# Altium integrated library TI Data Converters Analog to Digital Converter.IntLib: 2197 symbols (part 160 of 168)
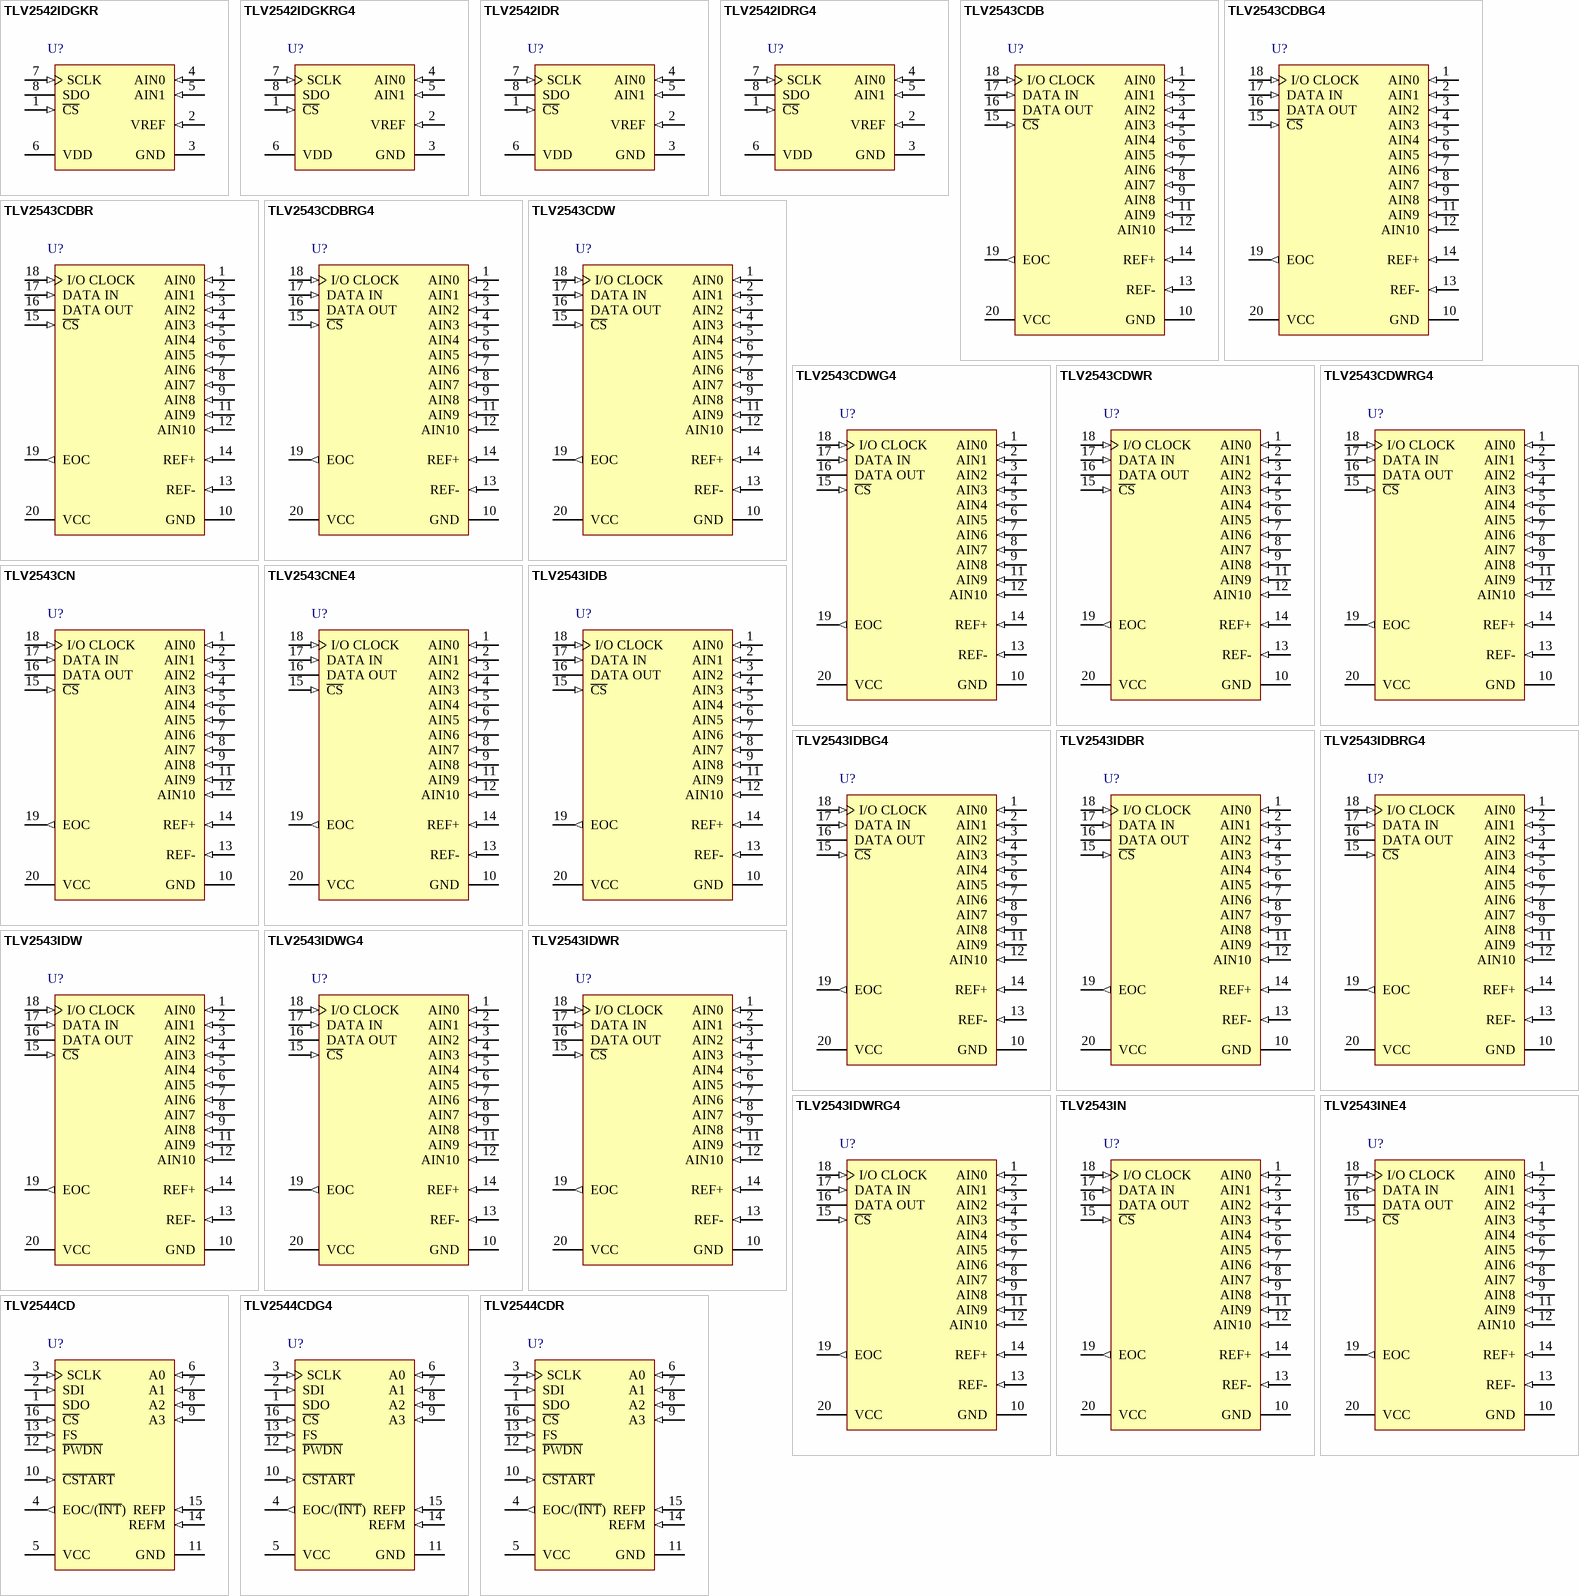
[diagram p285: symbols TLV2542IDGKR to TLV2544CDR]

## TLV2543CDBR
designator U?
12-Bit 66 kSPS ADC Serial Out, Programmable Power Down, MSB / LSB First, Built-in Self-Test Mode, 11 Channel, 0 to 70 degC, 20-pin SOP (DB20), Green (RoHS & no Sb/Br); Manufacturer: Texas Instruments; PartNumber: TLV2543CDBR; # Input Channels: 11; Analog Voltage AV/DD(Max)(V): 3.6; Analog Voltage AV/DD(Min)(V): 3; Architecture: SAR; INL(Max)(+/-LSB): 1; Interface: Serial SPI; Resolution(Bits): 12; Sample Rate (max)(SPS): 66k; SubFamily: Precision ADC (<=10MSPS); DatasheetVersion: SLAS096C; PackageVersion: 4040065/E, 12/2001; PackageReference: DB20; PackageDescription: 20-Pin Plastic Small Outline, Body 5.3 x 7.2 mm, Pitch 0.65 mm; Supplier 1: Digi-Key; Supplier Part Number 1: 296-24933-2-ND; Supplier 2: Digi-Key; Supplier Part Number 2: 296-24933-1-ND; Supplier 3: Digi-Key; Supplier Part Number 3: 296-24933-6-ND; Supplier 4: Farnell; Supplier Part Number 4: 1762980; Supplier 5: Newark; Supplier Part Number 5: 34R6530; Supplier 6: Newark; Supplier Part Number 6: 25R1240; Supplier 7: Mouser; Supplier Part Number 7: 595-ADS1114IRUGT; Digital Supply(Max)(V): 3.6; Digital Supply(Min)(V): 3; Eco-Plan: Green (RoHS & no Sb/Br); Mounting Technology: Surface Mount; Code_JEDEC: MO-150; ComponentLink1Description: Manufacturer URL; ComponentLink1URL: http://www.ti.com/; ComponentLink2Description: Datasheet; ComponentLink2URL: http://www.ti.com/general/docs/lit/getliterature.tsp?genericPartNumber=TLV2543&fileType=pdf; ComponentLink3Description: Package Specification; ComponentLink3URL: http://www.ti.com/lit/ml/msso002e/msso002e.pdf
footprint TI-DB20_N (SOP, 20-Leads, Body 7.2x5.3mm, Pitch 0.65mm, IPC Medium Density)
footprint TI-DB20_L (SOP, 20-Leads, Body 7.2x5.3mm, Pitch 0.65mm, IPC High Density)
footprint TI-DB20_M (SOP, 20-Leads, Body 7.2x5.3mm, Pitch 0.65mm, IPC Low Density)
pins: 1 AIN0 (in) "Analog input. These 11 analog-signal inputs are internally multiplexed.", 2 AIN1 (in) "Analog input. These 11 analog-signal inputs are internally multiplexed.", 3 AIN2 (in) "Analog input. These 11 analog-signal inputs are internally multiplexed.", 4 AIN3 (in) "Analog input. These 11 analog-signal inputs are internally multiplexed.", 5 AIN4 (in) "Analog input. These 11 analog-signal inputs are internally multiplexed.", 6 AIN5 (in) "Analog input. These 11 analog-signal inputs are internally multiplexed.", 7 AIN6 (in) "Analog input. These 11 analog-signal inputs are internally multiplexed.", 8 AIN7 (in) "Analog input. These 11 analog-signal inputs are internally multiplexed.", 9 AIN8 (in) "Analog input. These 11 analog-signal inputs are internally multiplexed.", 10 GND (power) "Ground. GND is the ground return terminal for the internal circuitry. Unless otherwise noted, all voltage measurements are with respect to GND.", 11 AIN9 (in) "Analog input. These 11 analog-signal inputs are internally multiplexed.", 12 AIN10 (in) "Analog input. These 11 analog-signal inputs are internally multiplexed.", 13 REF- (in) "Negative reference voltage. The lower reference voltage value (nominally ground) is applied to REF-. This pin is connected to analog ground (GND of the ADC) when internal reference is used.", 14 REF+ (in) "Positive reference voltage The upper reference voltage value (nominally VCC) is applied to REF+. The maximum analog input voltage range is determined by the difference between the voltage applied to terminals REF+ and REF-.", 15 ~{CS} (in) "Chip select. A high-to-low transition on C\S\ resets the internal counters and controls and enables DATA OUT, DATA IN, and I/O CLOCK. A low-to-high transition disables DATA IN and I/O CLOCK within a setup time.", 16 DATA OUT (hiz) "The 3-state serial output for the A/D conversion result. DATA OUT is in the high-impedance state when C\S\ is high and active when C\S\ is low. With a valid C\S\, DATA OUT is removed from the high-impedance state and is (See Datasheet)", 17 DATA IN (in) "Serial data input. The 4-bit serial data can be used as address selects the desired analog input channel or test voltage to be converted next, or a command to activate other other features. The input data is presented with (See Datasheet)", 18 I/O CLOCK (in) "Input /output clock. I/O CLOCK receives the serial input and performs the following four functions:", 19 EOC (out) "Status output, used to indicate the end of conversion (EOC) to the host processor. EOC goes from a high to a low logic level after the falling edge of the last I/O CLOCK and remains low until the conversion is complete and (See Datasheet)", 20 VCC (power) "Positive supply voltage"

## TLV2543CDBRG4
designator U?
12-Bit 66 kSPS ADC Serial Out, Programmable Power Down, MSB / LSB First, Built-in Self-Test Mode, 11 Channel, 0 to 70 degC, 20-pin SOP (DB20), Green (RoHS & no Sb/Br); Manufacturer: Texas Instruments; PartNumber: TLV2543CDBRG4; # Input Channels: 11; Analog Voltage AV/DD(Max)(V): 3.6; Analog Voltage AV/DD(Min)(V): 3; Architecture: SAR; INL(Max)(+/-LSB): 1; Interface: Serial SPI; Resolution(Bits): 12; Sample Rate (max)(SPS): 66k; SubFamily: Precision ADC (<=10MSPS); DatasheetVersion: SLAS096C; PackageVersion: 4040065/E, 12/2001; PackageReference: DB20; PackageDescription: 20-Pin Plastic Small Outline, Body 5.3 x 7.2 mm, Pitch 0.65 mm; Supplier 1: Digi-Key; Supplier Part Number 1: 296-24535-2-ND; Supplier 2: Digi-Key; Supplier Part Number 2: 296-24535-1-ND; Supplier 3: Digi-Key; Supplier Part Number 3: 296-24535-6-ND; Supplier 4: Newark; Supplier Part Number 4: 09R3251; Supplier 5: Mouser; Supplier Part Number 5: 595-ADS7822IDGKRQ1; Digital Supply(Max)(V): 3.6; Digital Supply(Min)(V): 3; Eco-Plan: Green (RoHS & no Sb/Br); Mounting Technology: Surface Mount; Code_JEDEC: MO-150; ComponentLink1Description: Manufacturer URL; ComponentLink1URL: http://www.ti.com/; ComponentLink2Description: Datasheet; ComponentLink2URL: http://www.ti.com/general/docs/lit/getliterature.tsp?genericPartNumber=TLV2543&fileType=pdf; ComponentLink3Description: Package Specification; ComponentLink3URL: http://www.ti.com/lit/ml/msso002e/msso002e.pdf
footprint TI-DB20_N (SOP, 20-Leads, Body 7.2x5.3mm, Pitch 0.65mm, IPC Medium Density)
footprint TI-DB20_L (SOP, 20-Leads, Body 7.2x5.3mm, Pitch 0.65mm, IPC High Density)
footprint TI-DB20_M (SOP, 20-Leads, Body 7.2x5.3mm, Pitch 0.65mm, IPC Low Density)
pins: 1 AIN0 (in) "Analog input. These 11 analog-signal inputs are internally multiplexed.", 2 AIN1 (in) "Analog input. These 11 analog-signal inputs are internally multiplexed.", 3 AIN2 (in) "Analog input. These 11 analog-signal inputs are internally multiplexed.", 4 AIN3 (in) "Analog input. These 11 analog-signal inputs are internally multiplexed.", 5 AIN4 (in) "Analog input. These 11 analog-signal inputs are internally multiplexed.", 6 AIN5 (in) "Analog input. These 11 analog-signal inputs are internally multiplexed.", 7 AIN6 (in) "Analog input. These 11 analog-signal inputs are internally multiplexed.", 8 AIN7 (in) "Analog input. These 11 analog-signal inputs are internally multiplexed.", 9 AIN8 (in) "Analog input. These 11 analog-signal inputs are internally multiplexed.", 10 GND (power) "Ground. GND is the ground return terminal for the internal circuitry. Unless otherwise noted, all voltage measurements are with respect to GND.", 11 AIN9 (in) "Analog input. These 11 analog-signal inputs are internally multiplexed.", 12 AIN10 (in) "Analog input. These 11 analog-signal inputs are internally multiplexed.", 13 REF- (in) "Negative reference voltage. The lower reference voltage value (nominally ground) is applied to REF-. This pin is connected to analog ground (GND of the ADC) when internal reference is used.", 14 REF+ (in) "Positive reference voltage The upper reference voltage value (nominally VCC) is applied to REF+. The maximum analog input voltage range is determined by the difference between the voltage applied to terminals REF+ and REF-.", 15 ~{CS} (in) "Chip select. A high-to-low transition on C\S\ resets the internal counters and controls and enables DATA OUT, DATA IN, and I/O CLOCK. A low-to-high transition disables DATA IN and I/O CLOCK within a setup time.", 16 DATA OUT (hiz) "The 3-state serial output for the A/D conversion result. DATA OUT is in the high-impedance state when C\S\ is high and active when C\S\ is low. With a valid C\S\, DATA OUT is removed from the high-impedance state and is (See Datasheet)", 17 DATA IN (in) "Serial data input. The 4-bit serial data can be used as address selects the desired analog input channel or test voltage to be converted next, or a command to activate other other features. The input data is presented with (See Datasheet)", 18 I/O CLOCK (in) "Input /output clock. I/O CLOCK receives the serial input and performs the following four functions:", 19 EOC (out) "Status output, used to indicate the end of conversion (EOC) to the host processor. EOC goes from a high to a low logic level after the falling edge of the last I/O CLOCK and remains low until the conversion is complete and (See Datasheet)", 20 VCC (power) "Positive supply voltage"

## TLV2543CDW
designator U?
12-Bit 66 kSPS ADC Serial Out, Programmable Power Down, MSB / LSB First, Built-in Self-Test Mode, 11 Channel, 0 to 70 degC, 20-pin SOIC (DW20), Green (RoHS & no Sb/Br); Manufacturer: Texas Instruments; PartNumber: TLV2543CDW; # Input Channels: 11; Analog Voltage AV/DD(Max)(V): 3.6; Analog Voltage AV/DD(Min)(V): 3; Architecture: SAR; INL(Max)(+/-LSB): 1; Interface: Serial SPI; Resolution(Bits): 12; Sample Rate (max)(SPS): 66k; SubFamily: Precision ADC (<=10MSPS); DatasheetVersion: SLAS096C; PackageVersion: 4040000-4/G, 01/2011; PackageReference: DW20; PackageDescription: 20-Pin Plastic Small Outline, Body 12.8 x 7.5 mm, Pitch 1.27 mm; Supplier 1: Digi-Key; Supplier Part Number 1: AFE5801IRGCR-ND; Supplier 2: Mouser; Supplier Part Number 2: 595-AFE5801IRGCR; Digital Supply(Max)(V): 3.6; Digital Supply(Min)(V): 3; Eco-Plan: Green (RoHS & no Sb/Br); Mounting Technology: Surface Mount; Code_JEDEC: MO-013; ComponentLink1Description: Manufacturer URL; ComponentLink1URL: http://www.ti.com/; ComponentLink2Description: Datasheet; ComponentLink2URL: http://www.ti.com/general/docs/lit/getliterature.tsp?genericPartNumber=TLV2543&fileType=pdf; ComponentLink3Description: Package Specification; ComponentLink3URL: http://www.ti.com/lit/ml/mpds173a/mpds173a.pdf
footprint TI-DW20_N (SOIC, 20-Leads, Body 12.8x7.5mm, Pitch 1.27mm, IPC Medium Density)
footprint TI-DW20_L (SOIC, 20-Leads, Body 12.8x7.5mm, Pitch 1.27mm, IPC High Density)
footprint TI-DW20_M (SOIC, 20-Leads, Body 12.8x7.5mm, Pitch 1.27mm, IPC Low Density)
pins: 1 AIN0 (in) "Analog input. These 11 analog-signal inputs are internally multiplexed.", 2 AIN1 (in) "Analog input. These 11 analog-signal inputs are internally multiplexed.", 3 AIN2 (in) "Analog input. These 11 analog-signal inputs are internally multiplexed.", 4 AIN3 (in) "Analog input. These 11 analog-signal inputs are internally multiplexed.", 5 AIN4 (in) "Analog input. These 11 analog-signal inputs are internally multiplexed.", 6 AIN5 (in) "Analog input. These 11 analog-signal inputs are internally multiplexed.", 7 AIN6 (in) "Analog input. These 11 analog-signal inputs are internally multiplexed.", 8 AIN7 (in) "Analog input. These 11 analog-signal inputs are internally multiplexed.", 9 AIN8 (in) "Analog input. These 11 analog-signal inputs are internally multiplexed.", 10 GND (power) "Ground. GND is the ground return terminal for the internal circuitry. Unless otherwise noted, all voltage measurements are with respect to GND.", 11 AIN9 (in) "Analog input. These 11 analog-signal inputs are internally multiplexed.", 12 AIN10 (in) "Analog input. These 11 analog-signal inputs are internally multiplexed.", 13 REF- (in) "Negative reference voltage. The lower reference voltage value (nominally ground) is applied to REF-. This pin is connected to analog ground (GND of the ADC) when internal reference is used.", 14 REF+ (in) "Positive reference voltage The upper reference voltage value (nominally VCC) is applied to REF+. The maximum analog input voltage range is determined by the difference between the voltage applied to terminals REF+ and REF-.", 15 ~{CS} (in) "Chip select. A high-to-low transition on C\S\ resets the internal counters and controls and enables DATA OUT, DATA IN, and I/O CLOCK. A low-to-high transition disables DATA IN and I/O CLOCK within a setup time.", 16 DATA OUT (hiz) "The 3-state serial output for the A/D conversion result. DATA OUT is in the high-impedance state when C\S\ is high and active when C\S\ is low. With a valid C\S\, DATA OUT is removed from the high-impedance state and is (See Datasheet)", 17 DATA IN (in) "Serial data input. The 4-bit serial data can be used as address selects the desired analog input channel or test voltage to be converted next, or a command to activate other other features. The input data is presented with (See Datasheet)", 18 I/O CLOCK (in) "Input /output clock. I/O CLOCK receives the serial input and performs the following four functions:", 19 EOC (out) "Status output, used to indicate the end of conversion (EOC) to the host processor. EOC goes from a high to a low logic level after the falling edge of the last I/O CLOCK and remains low until the conversion is complete and (See Datasheet)", 20 VCC (power) "Positive supply voltage"

## TLV2543CDWG4
designator U?
12-Bit 66 kSPS ADC Serial Out, Programmable Power Down, MSB / LSB First, Built-in Self-Test Mode, 11 Channel, 0 to 70 degC, 20-pin SOIC (DW20), Green (RoHS & no Sb/Br); Manufacturer: Texas Instruments; PartNumber: TLV2543CDWG4; # Input Channels: 11; Analog Voltage AV/DD(Max)(V): 3.6; Analog Voltage AV/DD(Min)(V): 3; Architecture: SAR; INL(Max)(+/-LSB): 1; Interface: Serial SPI; Resolution(Bits): 12; Sample Rate (max)(SPS): 66k; SubFamily: Precision ADC (<=10MSPS); DatasheetVersion: SLAS096C; PackageVersion: 4040000-4/G, 01/2011; PackageReference: DW20; PackageDescription: 20-Pin Plastic Small Outline, Body 12.8 x 7.5 mm, Pitch 1.27 mm; Supplier 1: Digi-Key; Supplier Part Number 1: 296-24307-2-ND; Supplier 2: Digi-Key; Supplier Part Number 2: 296-24307-1-ND; Supplier 3: Digi-Key; Supplier Part Number 3: 296-24307-6-ND; Supplier 4: Newark; Supplier Part Number 4: 09R3265; Supplier 5: Mouser; Supplier Part Number 5: 595-AFE5801IRGCT; Digital Supply(Max)(V): 3.6; Digital Supply(Min)(V): 3; Eco-Plan: Green (RoHS & no Sb/Br); Mounting Technology: Surface Mount; Code_JEDEC: MO-013; ComponentLink1Description: Manufacturer URL; ComponentLink1URL: http://www.ti.com/; ComponentLink2Description: Datasheet; ComponentLink2URL: http://www.ti.com/general/docs/lit/getliterature.tsp?genericPartNumber=TLV2543&fileType=pdf; ComponentLink3Description: Package Specification; ComponentLink3URL: http://www.ti.com/lit/ml/mpds173a/mpds173a.pdf
footprint TI-DW20_N (SOIC, 20-Leads, Body 12.8x7.5mm, Pitch 1.27mm, IPC Medium Density)
footprint TI-DW20_L (SOIC, 20-Leads, Body 12.8x7.5mm, Pitch 1.27mm, IPC High Density)
footprint TI-DW20_M (SOIC, 20-Leads, Body 12.8x7.5mm, Pitch 1.27mm, IPC Low Density)
pins: 1 AIN0 (in) "Analog input. These 11 analog-signal inputs are internally multiplexed.", 2 AIN1 (in) "Analog input. These 11 analog-signal inputs are internally multiplexed.", 3 AIN2 (in) "Analog input. These 11 analog-signal inputs are internally multiplexed.", 4 AIN3 (in) "Analog input. These 11 analog-signal inputs are internally multiplexed.", 5 AIN4 (in) "Analog input. These 11 analog-signal inputs are internally multiplexed.", 6 AIN5 (in) "Analog input. These 11 analog-signal inputs are internally multiplexed.", 7 AIN6 (in) "Analog input. These 11 analog-signal inputs are internally multiplexed.", 8 AIN7 (in) "Analog input. These 11 analog-signal inputs are internally multiplexed.", 9 AIN8 (in) "Analog input. These 11 analog-signal inputs are internally multiplexed.", 10 GND (power) "Ground. GND is the ground return terminal for the internal circuitry. Unless otherwise noted, all voltage measurements are with respect to GND.", 11 AIN9 (in) "Analog input. These 11 analog-signal inputs are internally multiplexed.", 12 AIN10 (in) "Analog input. These 11 analog-signal inputs are internally multiplexed.", 13 REF- (in) "Negative reference voltage. The lower reference voltage value (nominally ground) is applied to REF-. This pin is connected to analog ground (GND of the ADC) when internal reference is used.", 14 REF+ (in) "Positive reference voltage The upper reference voltage value (nominally VCC) is applied to REF+. The maximum analog input voltage range is determined by the difference between the voltage applied to terminals REF+ and REF-.", 15 ~{CS} (in) "Chip select. A high-to-low transition on C\S\ resets the internal counters and controls and enables DATA OUT, DATA IN, and I/O CLOCK. A low-to-high transition disables DATA IN and I/O CLOCK within a setup time.", 16 DATA OUT (hiz) "The 3-state serial output for the A/D conversion result. DATA OUT is in the high-impedance state when C\S\ is high and active when C\S\ is low. With a valid C\S\, DATA OUT is removed from the high-impedance state and is (See Datasheet)", 17 DATA IN (in) "Serial data input. The 4-bit serial data can be used as address selects the desired analog input channel or test voltage to be converted next, or a command to activate other other features. The input data is presented with (See Datasheet)", 18 I/O CLOCK (in) "Input /output clock. I/O CLOCK receives the serial input and performs the following four functions:", 19 EOC (out) "Status output, used to indicate the end of conversion (EOC) to the host processor. EOC goes from a high to a low logic level after the falling edge of the last I/O CLOCK and remains low until the conversion is complete and (See Datasheet)", 20 VCC (power) "Positive supply voltage"

## TLV2543CDWR
designator U?
12-Bit 66 kSPS ADC Serial Out, Programmable Power Down, MSB / LSB First, Built-in Self-Test Mode, 11 Channel, 0 to 70 degC, 20-pin SOIC (DW20), Green (RoHS & no Sb/Br); Manufacturer: Texas Instruments; PartNumber: TLV2543CDWR; # Input Channels: 11; Analog Voltage AV/DD(Max)(V): 3.6; Analog Voltage AV/DD(Min)(V): 3; Architecture: SAR; INL(Max)(+/-LSB): 1; Interface: Serial SPI; Resolution(Bits): 12; Sample Rate (max)(SPS): 66k; SubFamily: Precision ADC (<=10MSPS); DatasheetVersion: SLAS096C; PackageVersion: 4040000-4/G, 01/2011; PackageReference: DW20; PackageDescription: 20-Pin Plastic Small Outline, Body 12.8 x 7.5 mm, Pitch 1.27 mm; Supplier 1: Digi-Key; Supplier Part Number 1: 296-24132-ND; Supplier 2: Farnell; Supplier Part Number 2: 1754692; Supplier 3: Newark; Supplier Part Number 3: 09R3241; Supplier 4: Mouser; Supplier Part Number 4: 595-ADS1675IPAG; Digital Supply(Max)(V): 3.6; Digital Supply(Min)(V): 3; Eco-Plan: Green (RoHS & no Sb/Br); Mounting Technology: Surface Mount; Code_JEDEC: MO-013; ComponentLink1Description: Manufacturer URL; ComponentLink1URL: http://www.ti.com/; ComponentLink2Description: Datasheet; ComponentLink2URL: http://www.ti.com/general/docs/lit/getliterature.tsp?genericPartNumber=TLV2543&fileType=pdf; ComponentLink3Description: Package Specification; ComponentLink3URL: http://www.ti.com/lit/ml/mpds173a/mpds173a.pdf
footprint TI-DW20_N (SOIC, 20-Leads, Body 12.8x7.5mm, Pitch 1.27mm, IPC Medium Density)
footprint TI-DW20_L (SOIC, 20-Leads, Body 12.8x7.5mm, Pitch 1.27mm, IPC High Density)
footprint TI-DW20_M (SOIC, 20-Leads, Body 12.8x7.5mm, Pitch 1.27mm, IPC Low Density)
pins: 1 AIN0 (in) "Analog input. These 11 analog-signal inputs are internally multiplexed.", 2 AIN1 (in) "Analog input. These 11 analog-signal inputs are internally multiplexed.", 3 AIN2 (in) "Analog input. These 11 analog-signal inputs are internally multiplexed.", 4 AIN3 (in) "Analog input. These 11 analog-signal inputs are internally multiplexed.", 5 AIN4 (in) "Analog input. These 11 analog-signal inputs are internally multiplexed.", 6 AIN5 (in) "Analog input. These 11 analog-signal inputs are internally multiplexed.", 7 AIN6 (in) "Analog input. These 11 analog-signal inputs are internally multiplexed.", 8 AIN7 (in) "Analog input. These 11 analog-signal inputs are internally multiplexed.", 9 AIN8 (in) "Analog input. These 11 analog-signal inputs are internally multiplexed.", 10 GND (power) "Ground. GND is the ground return terminal for the internal circuitry. Unless otherwise noted, all voltage measurements are with respect to GND.", 11 AIN9 (in) "Analog input. These 11 analog-signal inputs are internally multiplexed.", 12 AIN10 (in) "Analog input. These 11 analog-signal inputs are internally multiplexed.", 13 REF- (in) "Negative reference voltage. The lower reference voltage value (nominally ground) is applied to REF-. This pin is connected to analog ground (GND of the ADC) when internal reference is used.", 14 REF+ (in) "Positive reference voltage The upper reference voltage value (nominally VCC) is applied to REF+. The maximum analog input voltage range is determined by the difference between the voltage applied to terminals REF+ and REF-.", 15 ~{CS} (in) "Chip select. A high-to-low transition on C\S\ resets the internal counters and controls and enables DATA OUT, DATA IN, and I/O CLOCK. A low-to-high transition disables DATA IN and I/O CLOCK within a setup time.", 16 DATA OUT (hiz) "The 3-state serial output for the A/D conversion result. DATA OUT is in the high-impedance state when C\S\ is high and active when C\S\ is low. With a valid C\S\, DATA OUT is removed from the high-impedance state and is (See Datasheet)", 17 DATA IN (in) "Serial data input. The 4-bit serial data can be used as address selects the desired analog input channel or test voltage to be converted next, or a command to activate other other features. The input data is presented with (See Datasheet)", 18 I/O CLOCK (in) "Input /output clock. I/O CLOCK receives the serial input and performs the following four functions:", 19 EOC (out) "Status output, used to indicate the end of conversion (EOC) to the host processor. EOC goes from a high to a low logic level after the falling edge of the last I/O CLOCK and remains low until the conversion is complete and (See Datasheet)", 20 VCC (power) "Positive supply voltage"

## TLV2543CDWRG4
designator U?
12-Bit 66 kSPS ADC Serial Out, Programmable Power Down, MSB / LSB First, Built-in Self-Test Mode, 11 Channel, 0 to 70 degC, 20-pin SOIC (DW20), Green (RoHS & no Sb/Br); Manufacturer: Texas Instruments; PartNumber: TLV2543CDWRG4; # Input Channels: 11; Analog Voltage AV/DD(Max)(V): 3.6; Analog Voltage AV/DD(Min)(V): 3; Architecture: SAR; INL(Max)(+/-LSB): 1; Interface: Serial SPI; Resolution(Bits): 12; Sample Rate (max)(SPS): 66k; SubFamily: Precision ADC (<=10MSPS); DatasheetVersion: SLAS096C; PackageVersion: 4040000-4/G, 01/2011; PackageReference: DW20; PackageDescription: 20-Pin Plastic Small Outline, Body 12.8 x 7.5 mm, Pitch 1.27 mm; Supplier 1: Digi-Key; Supplier Part Number 1: ADS1675IPAGR-ND; Supplier 2: Mouser; Supplier Part Number 2: 595-ADS1675IPAGR; Digital Supply(Max)(V): 3.6; Digital Supply(Min)(V): 3; Eco-Plan: Green (RoHS & no Sb/Br); Mounting Technology: Surface Mount; Code_JEDEC: MO-013; ComponentLink1Description: Manufacturer URL; ComponentLink1URL: http://www.ti.com/; ComponentLink2Description: Datasheet; ComponentLink2URL: http://www.ti.com/general/docs/lit/getliterature.tsp?genericPartNumber=TLV2543&fileType=pdf; ComponentLink3Description: Package Specification; ComponentLink3URL: http://www.ti.com/lit/ml/mpds173a/mpds173a.pdf
footprint TI-DW20_N (SOIC, 20-Leads, Body 12.8x7.5mm, Pitch 1.27mm, IPC Medium Density)
footprint TI-DW20_L (SOIC, 20-Leads, Body 12.8x7.5mm, Pitch 1.27mm, IPC High Density)
footprint TI-DW20_M (SOIC, 20-Leads, Body 12.8x7.5mm, Pitch 1.27mm, IPC Low Density)
pins: 1 AIN0 (in) "Analog input. These 11 analog-signal inputs are internally multiplexed.", 2 AIN1 (in) "Analog input. These 11 analog-signal inputs are internally multiplexed.", 3 AIN2 (in) "Analog input. These 11 analog-signal inputs are internally multiplexed.", 4 AIN3 (in) "Analog input. These 11 analog-signal inputs are internally multiplexed.", 5 AIN4 (in) "Analog input. These 11 analog-signal inputs are internally multiplexed.", 6 AIN5 (in) "Analog input. These 11 analog-signal inputs are internally multiplexed.", 7 AIN6 (in) "Analog input. These 11 analog-signal inputs are internally multiplexed.", 8 AIN7 (in) "Analog input. These 11 analog-signal inputs are internally multiplexed.", 9 AIN8 (in) "Analog input. These 11 analog-signal inputs are internally multiplexed.", 10 GND (power) "Ground. GND is the ground return terminal for the internal circuitry. Unless otherwise noted, all voltage measurements are with respect to GND.", 11 AIN9 (in) "Analog input. These 11 analog-signal inputs are internally multiplexed.", 12 AIN10 (in) "Analog input. These 11 analog-signal inputs are internally multiplexed.", 13 REF- (in) "Negative reference voltage. The lower reference voltage value (nominally ground) is applied to REF-. This pin is connected to analog ground (GND of the ADC) when internal reference is used.", 14 REF+ (in) "Positive reference voltage The upper reference voltage value (nominally VCC) is applied to REF+. The maximum analog input voltage range is determined by the difference between the voltage applied to terminals REF+ and REF-.", 15 ~{CS} (in) "Chip select. A high-to-low transition on C\S\ resets the internal counters and controls and enables DATA OUT, DATA IN, and I/O CLOCK. A low-to-high transition disables DATA IN and I/O CLOCK within a setup time.", 16 DATA OUT (hiz) "The 3-state serial output for the A/D conversion result. DATA OUT is in the high-impedance state when C\S\ is high and active when C\S\ is low. With a valid C\S\, DATA OUT is removed from the high-impedance state and is (See Datasheet)", 17 DATA IN (in) "Serial data input. The 4-bit serial data can be used as address selects the desired analog input channel or test voltage to be converted next, or a command to activate other other features. The input data is presented with (See Datasheet)", 18 I/O CLOCK (in) "Input /output clock. I/O CLOCK receives the serial input and performs the following four functions:", 19 EOC (out) "Status output, used to indicate the end of conversion (EOC) to the host processor. EOC goes from a high to a low logic level after the falling edge of the last I/O CLOCK and remains low until the conversion is complete and (See Datasheet)", 20 VCC (power) "Positive supply voltage"

## TLV2543CN
designator U?
12-Bit 66 kSPS ADC Serial Out, Programmable Power Down, MSB / LSB First, Built-in Self-Test Mode, 11 Channel, 0 to 70 degC, 20-pin DIP (N20), Pb-Free (RoHS); Manufacturer: Texas Instruments; PartNumber: TLV2543CN; # Input Channels: 11; Analog Voltage AV/DD(Max)(V): 3.6; Analog Voltage AV/DD(Min)(V): 3; Architecture: SAR; INL(Max)(+/-LSB): 1; Interface: Serial SPI; Resolution(Bits): 12; Sample Rate (max)(SPS): 66k; SubFamily: Precision ADC (<=10MSPS); DatasheetVersion: SLAS096C; PackageVersion: 4040049/E, 12/2002; PackageReference: N20; PackageDescription: 20-Pin Plastic In-Line, Body 25.40 x 6.35 mm, Pitch 2.54 mm; Supplier 1: Digi-Key; Supplier Part Number 1: ADS8284IBRGCR-ND; Supplier 2: Newark; Supplier Part Number 2: 09R3261; Supplier 3: Mouser; Supplier Part Number 3: 595-ADS8284IBRGCR; Digital Supply(Max)(V): 3.6; Digital Supply(Min)(V): 3; Eco-Plan: Pb-Free (RoHS); Mounting Technology: Through Hole; Code_JEDEC: MS-001; ComponentLink1Description: Manufacturer URL; ComponentLink1URL: http://www.ti.com/; ComponentLink2Description: Datasheet; ComponentLink2URL: http://www.ti.com/general/docs/lit/getliterature.tsp?genericPartNumber=TLV2543&fileType=pdf; ComponentLink3Description: Package Specification; ComponentLink3URL: http://www.ti.com/lit/ml/mpdi002c/mpdi002c.pdf
footprint TI-N20 (DIP, 20-Leads, Body 25.4x6.35 mm, Pitch 2.54 mm)
pins: 1 AIN0 (in) "Analog input. These 11 analog-signal inputs are internally multiplexed.", 2 AIN1 (in) "Analog input. These 11 analog-signal inputs are internally multiplexed.", 3 AIN2 (in) "Analog input. These 11 analog-signal inputs are internally multiplexed.", 4 AIN3 (in) "Analog input. These 11 analog-signal inputs are internally multiplexed.", 5 AIN4 (in) "Analog input. These 11 analog-signal inputs are internally multiplexed.", 6 AIN5 (in) "Analog input. These 11 analog-signal inputs are internally multiplexed.", 7 AIN6 (in) "Analog input. These 11 analog-signal inputs are internally multiplexed.", 8 AIN7 (in) "Analog input. These 11 analog-signal inputs are internally multiplexed.", 9 AIN8 (in) "Analog input. These 11 analog-signal inputs are internally multiplexed.", 10 GND (power) "Ground. GND is the ground return terminal for the internal circuitry. Unless otherwise noted, all voltage measurements are with respect to GND.", 11 AIN9 (in) "Analog input. These 11 analog-signal inputs are internally multiplexed.", 12 AIN10 (in) "Analog input. These 11 analog-signal inputs are internally multiplexed.", 13 REF- (in) "Negative reference voltage. The lower reference voltage value (nominally ground) is applied to REF-. This pin is connected to analog ground (GND of the ADC) when internal reference is used.", 14 REF+ (in) "Positive reference voltage The upper reference voltage value (nominally VCC) is applied to REF+. The maximum analog input voltage range is determined by the difference between the voltage applied to terminals REF+ and REF-.", 15 ~{CS} (in) "Chip select. A high-to-low transition on C\S\ resets the internal counters and controls and enables DATA OUT, DATA IN, and I/O CLOCK. A low-to-high transition disables DATA IN and I/O CLOCK within a setup time.", 16 DATA OUT (hiz) "The 3-state serial output for the A/D conversion result. DATA OUT is in the high-impedance state when C\S\ is high and active when C\S\ is low. With a valid C\S\, DATA OUT is removed from the high-impedance state and is (See Datasheet)", 17 DATA IN (in) "Serial data input. The 4-bit serial data can be used as address selects the desired analog input channel or test voltage to be converted next, or a command to activate other other features. The input data is presented with (See Datasheet)", 18 I/O CLOCK (in) "Input /output clock. I/O CLOCK receives the serial input and performs the following four functions:", 19 EOC (out) "Status output, used to indicate the end of conversion (EOC) to the host processor. EOC goes from a high to a low logic level after the falling edge of the last I/O CLOCK and remains low until the conversion is complete and (See Datasheet)", 20 VCC (power) "Positive supply voltage"

## TLV2543CNE4
designator U?
12-Bit 66 kSPS ADC Serial Out, Programmable Power Down, MSB / LSB First, Built-in Self-Test Mode, 11 Channel, 0 to 70 degC, 20-pin DIP (N20), Pb-Free (RoHS); Manufacturer: Texas Instruments; PartNumber: TLV2543CNE4; # Input Channels: 11; Analog Voltage AV/DD(Max)(V): 3.6; Analog Voltage AV/DD(Min)(V): 3; Architecture: SAR; INL(Max)(+/-LSB): 1; Interface: Serial SPI; Resolution(Bits): 12; Sample Rate (max)(SPS): 66k; SubFamily: Precision ADC (<=10MSPS); DatasheetVersion: SLAS096C; PackageVersion: 4040049/E, 12/2002; PackageReference: N20; PackageDescription: 20-Pin Plastic In-Line, Body 25.40 x 6.35 mm, Pitch 2.54 mm; Supplier 1: Digi-Key; Supplier Part Number 1: 296-24312-2-ND; Supplier 2: Digi-Key; Supplier Part Number 2: 296-24312-1-ND; Supplier 3: Digi-Key; Supplier Part Number 3: 296-24312-6-ND; Supplier 4: Farnell; Supplier Part Number 4: 2082420; Supplier 5: Newark; Supplier Part Number 5: 05R5223; Supplier 6: Mouser; Supplier Part Number 6: 595-ADS8284IBRGCT; Digital Supply(Max)(V): 3.6; Digital Supply(Min)(V): 3; Eco-Plan: Pb-Free (RoHS); Mounting Technology: Through Hole; Code_JEDEC: MS-001; ComponentLink1Description: Manufacturer URL; ComponentLink1URL: http://www.ti.com/; ComponentLink2Description: Datasheet; ComponentLink2URL: http://www.ti.com/general/docs/lit/getliterature.tsp?genericPartNumber=TLV2543&fileType=pdf; ComponentLink3Description: Package Specification; ComponentLink3URL: http://www.ti.com/lit/ml/mpdi002c/mpdi002c.pdf
footprint TI-N20 (DIP, 20-Leads, Body 25.4x6.35 mm, Pitch 2.54 mm)
pins: 1 AIN0 (in) "Analog input. These 11 analog-signal inputs are internally multiplexed.", 2 AIN1 (in) "Analog input. These 11 analog-signal inputs are internally multiplexed.", 3 AIN2 (in) "Analog input. These 11 analog-signal inputs are internally multiplexed.", 4 AIN3 (in) "Analog input. These 11 analog-signal inputs are internally multiplexed.", 5 AIN4 (in) "Analog input. These 11 analog-signal inputs are internally multiplexed.", 6 AIN5 (in) "Analog input. These 11 analog-signal inputs are internally multiplexed.", 7 AIN6 (in) "Analog input. These 11 analog-signal inputs are internally multiplexed.", 8 AIN7 (in) "Analog input. These 11 analog-signal inputs are internally multiplexed.", 9 AIN8 (in) "Analog input. These 11 analog-signal inputs are internally multiplexed.", 10 GND (power) "Ground. GND is the ground return terminal for the internal circuitry. Unless otherwise noted, all voltage measurements are with respect to GND.", 11 AIN9 (in) "Analog input. These 11 analog-signal inputs are internally multiplexed.", 12 AIN10 (in) "Analog input. These 11 analog-signal inputs are internally multiplexed.", 13 REF- (in) "Negative reference voltage. The lower reference voltage value (nominally ground) is applied to REF-. This pin is connected to analog ground (GND of the ADC) when internal reference is used.", 14 REF+ (in) "Positive reference voltage The upper reference voltage value (nominally VCC) is applied to REF+. The maximum analog input voltage range is determined by the difference between the voltage applied to terminals REF+ and REF-.", 15 ~{CS} (in) "Chip select. A high-to-low transition on C\S\ resets the internal counters and controls and enables DATA OUT, DATA IN, and I/O CLOCK. A low-to-high transition disables DATA IN and I/O CLOCK within a setup time.", 16 DATA OUT (hiz) "The 3-state serial output for the A/D conversion result. DATA OUT is in the high-impedance state when C\S\ is high and active when C\S\ is low. With a valid C\S\, DATA OUT is removed from the high-impedance state and is (See Datasheet)", 17 DATA IN (in) "Serial data input. The 4-bit serial data can be used as address selects the desired analog input channel or test voltage to be converted next, or a command to activate other other features. The input data is presented with (See Datasheet)", 18 I/O CLOCK (in) "Input /output clock. I/O CLOCK receives the serial input and performs the following four functions:", 19 EOC (out) "Status output, used to indicate the end of conversion (EOC) to the host processor. EOC goes from a high to a low logic level after the falling edge of the last I/O CLOCK and remains low until the conversion is complete and (See Datasheet)", 20 VCC (power) "Positive supply voltage"

## TLV2543IDB
designator U?
12-Bit 66 kSPS ADC Serial Out, Programmable Power Down, MSB / LSB First, Built-in Self-Test Mode, 11 Channel, -40 to 85 degC, 20-pin SOP (DB20), Green (RoHS & no Sb/Br); Manufacturer: Texas Instruments; PartNumber: TLV2543IDB; # Input Channels: 11; Analog Voltage AV/DD(Max)(V): 3.6; Analog Voltage AV/DD(Min)(V): 3; Architecture: SAR; INL(Max)(+/-LSB): 1; Interface: Serial SPI; Resolution(Bits): 12; Sample Rate (max)(SPS): 66k; SubFamily: Precision ADC (<=10MSPS); DatasheetVersion: SLAS096C; PackageVersion: 4040065/E, 12/2001; PackageReference: DB20; PackageDescription: 20-Pin Plastic Small Outline, Body 5.3 x 7.2 mm, Pitch 0.65 mm; Supplier 1: Digi-Key; Supplier Part Number 1: ADS8284IRGCR-ND; Supplier 2: Mouser; Supplier Part Number 2: 595-ADS8284IRGCR; Digital Supply(Max)(V): 3.6; Digital Supply(Min)(V): 3; Eco-Plan: Green (RoHS & no Sb/Br); Mounting Technology: Surface Mount; Code_JEDEC: MO-150; ComponentLink1Description: Manufacturer URL; ComponentLink1URL: http://www.ti.com/; ComponentLink2Description: Datasheet; ComponentLink2URL: http://www.ti.com/general/docs/lit/getliterature.tsp?genericPartNumber=TLV2543&fileType=pdf; ComponentLink3Description: Package Specification; ComponentLink3URL: http://www.ti.com/lit/ml/msso002e/msso002e.pdf
footprint TI-DB20_N (SOP, 20-Leads, Body 7.2x5.3mm, Pitch 0.65mm, IPC Medium Density)
footprint TI-DB20_L (SOP, 20-Leads, Body 7.2x5.3mm, Pitch 0.65mm, IPC High Density)
footprint TI-DB20_M (SOP, 20-Leads, Body 7.2x5.3mm, Pitch 0.65mm, IPC Low Density)
pins: 1 AIN0 (in) "Analog input. These 11 analog-signal inputs are internally multiplexed.", 2 AIN1 (in) "Analog input. These 11 analog-signal inputs are internally multiplexed.", 3 AIN2 (in) "Analog input. These 11 analog-signal inputs are internally multiplexed.", 4 AIN3 (in) "Analog input. These 11 analog-signal inputs are internally multiplexed.", 5 AIN4 (in) "Analog input. These 11 analog-signal inputs are internally multiplexed.", 6 AIN5 (in) "Analog input. These 11 analog-signal inputs are internally multiplexed.", 7 AIN6 (in) "Analog input. These 11 analog-signal inputs are internally multiplexed.", 8 AIN7 (in) "Analog input. These 11 analog-signal inputs are internally multiplexed.", 9 AIN8 (in) "Analog input. These 11 analog-signal inputs are internally multiplexed.", 10 GND (power) "Ground. GND is the ground return terminal for the internal circuitry. Unless otherwise noted, all voltage measurements are with respect to GND.", 11 AIN9 (in) "Analog input. These 11 analog-signal inputs are internally multiplexed.", 12 AIN10 (in) "Analog input. These 11 analog-signal inputs are internally multiplexed.", 13 REF- (in) "Negative reference voltage. The lower reference voltage value (nominally ground) is applied to REF-. This pin is connected to analog ground (GND of the ADC) when internal reference is used.", 14 REF+ (in) "Positive reference voltage The upper reference voltage value (nominally VCC) is applied to REF+. The maximum analog input voltage range is determined by the difference between the voltage applied to terminals REF+ and REF-.", 15 ~{CS} (in) "Chip select. A high-to-low transition on C\S\ resets the internal counters and controls and enables DATA OUT, DATA IN, and I/O CLOCK. A low-to-high transition disables DATA IN and I/O CLOCK within a setup time.", 16 DATA OUT (hiz) "The 3-state serial output for the A/D conversion result. DATA OUT is in the high-impedance state when C\S\ is high and active when C\S\ is low. With a valid C\S\, DATA OUT is removed from the high-impedance state and is (See Datasheet)", 17 DATA IN (in) "Serial data input. The 4-bit serial data can be used as address selects the desired analog input channel or test voltage to be converted next, or a command to activate other other features. The input data is presented with (See Datasheet)", 18 I/O CLOCK (in) "Input /output clock. I/O CLOCK receives the serial input and performs the following four functions:", 19 EOC (out) "Status output, used to indicate the end of conversion (EOC) to the host processor. EOC goes from a high to a low logic level after the falling edge of the last I/O CLOCK and remains low until the conversion is complete and (See Datasheet)", 20 VCC (power) "Positive supply voltage"

## TLV2543IDBG4
designator U?
12-Bit 66 kSPS ADC Serial Out, Programmable Power Down, MSB / LSB First, Built-in Self-Test Mode, 11 Channel, -40 to 85 degC, 20-pin SOP (DB20), Green (RoHS & no Sb/Br); Manufacturer: Texas Instruments; PartNumber: TLV2543IDBG4; # Input Channels: 11; Analog Voltage AV/DD(Max)(V): 3.6; Analog Voltage AV/DD(Min)(V): 3; Architecture: SAR; INL(Max)(+/-LSB): 1; Interface: Serial SPI; Resolution(Bits): 12; Sample Rate (max)(SPS): 66k; SubFamily: Precision ADC (<=10MSPS); DatasheetVersion: SLAS096C; PackageVersion: 4040065/E, 12/2001; PackageReference: DB20; PackageDescription: 20-Pin Plastic Small Outline, Body 5.3 x 7.2 mm, Pitch 0.65 mm; Supplier 1: Digi-Key; Supplier Part Number 1: 296-24313-2-ND; Supplier 2: Digi-Key; Supplier Part Number 2: 296-24313-1-ND; Supplier 3: Digi-Key; Supplier Part Number 3: 296-24313-6-ND; Supplier 4: Mouser; Supplier Part Number 4: 595-ADS8284IRGCT; Digital Supply(Max)(V): 3.6; Digital Supply(Min)(V): 3; Eco-Plan: Green (RoHS & no Sb/Br); Mounting Technology: Surface Mount; Code_JEDEC: MO-150; ComponentLink1Description: Manufacturer URL; ComponentLink1URL: http://www.ti.com/; ComponentLink2Description: Datasheet; ComponentLink2URL: http://www.ti.com/general/docs/lit/getliterature.tsp?genericPartNumber=TLV2543&fileType=pdf; ComponentLink3Description: Package Specification; ComponentLink3URL: http://www.ti.com/lit/ml/msso002e/msso002e.pdf
footprint TI-DB20_N (SOP, 20-Leads, Body 7.2x5.3mm, Pitch 0.65mm, IPC Medium Density)
footprint TI-DB20_L (SOP, 20-Leads, Body 7.2x5.3mm, Pitch 0.65mm, IPC High Density)
footprint TI-DB20_M (SOP, 20-Leads, Body 7.2x5.3mm, Pitch 0.65mm, IPC Low Density)
pins: 1 AIN0 (in) "Analog input. These 11 analog-signal inputs are internally multiplexed.", 2 AIN1 (in) "Analog input. These 11 analog-signal inputs are internally multiplexed.", 3 AIN2 (in) "Analog input. These 11 analog-signal inputs are internally multiplexed.", 4 AIN3 (in) "Analog input. These 11 analog-signal inputs are internally multiplexed.", 5 AIN4 (in) "Analog input. These 11 analog-signal inputs are internally multiplexed.", 6 AIN5 (in) "Analog input. These 11 analog-signal inputs are internally multiplexed.", 7 AIN6 (in) "Analog input. These 11 analog-signal inputs are internally multiplexed.", 8 AIN7 (in) "Analog input. These 11 analog-signal inputs are internally multiplexed.", 9 AIN8 (in) "Analog input. These 11 analog-signal inputs are internally multiplexed.", 10 GND (power) "Ground. GND is the ground return terminal for the internal circuitry. Unless otherwise noted, all voltage measurements are with respect to GND.", 11 AIN9 (in) "Analog input. These 11 analog-signal inputs are internally multiplexed.", 12 AIN10 (in) "Analog input. These 11 analog-signal inputs are internally multiplexed.", 13 REF- (in) "Negative reference voltage. The lower reference voltage value (nominally ground) is applied to REF-. This pin is connected to analog ground (GND of the ADC) when internal reference is used.", 14 REF+ (in) "Positive reference voltage The upper reference voltage value (nominally VCC) is applied to REF+. The maximum analog input voltage range is determined by the difference between the voltage applied to terminals REF+ and REF-.", 15 ~{CS} (in) "Chip select. A high-to-low transition on C\S\ resets the internal counters and controls and enables DATA OUT, DATA IN, and I/O CLOCK. A low-to-high transition disables DATA IN and I/O CLOCK within a setup time.", 16 DATA OUT (hiz) "The 3-state serial output for the A/D conversion result. DATA OUT is in the high-impedance state when C\S\ is high and active when C\S\ is low. With a valid C\S\, DATA OUT is removed from the high-impedance state and is (See Datasheet)", 17 DATA IN (in) "Serial data input. The 4-bit serial data can be used as address selects the desired analog input channel or test voltage to be converted next, or a command to activate other other features. The input data is presented with (See Datasheet)", 18 I/O CLOCK (in) "Input /output clock. I/O CLOCK receives the serial input and performs the following four functions:", 19 EOC (out) "Status output, used to indicate the end of conversion (EOC) to the host processor. EOC goes from a high to a low logic level after the falling edge of the last I/O CLOCK and remains low until the conversion is complete and (See Datasheet)", 20 VCC (power) "Positive supply voltage"

## TLV2543IDBR
designator U?
12-Bit 66 kSPS ADC Serial Out, Programmable Power Down, MSB / LSB First, Built-in Self-Test Mode, 11 Channel, -40 to 85 degC, 20-pin SOP (DB20), Green (RoHS & no Sb/Br); Manufacturer: Texas Instruments; PartNumber: TLV2543IDBR; # Input Channels: 11; Analog Voltage AV/DD(Max)(V): 3.6; Analog Voltage AV/DD(Min)(V): 3; Architecture: SAR; INL(Max)(+/-LSB): 1; Interface: Serial SPI; Resolution(Bits): 12; Sample Rate (max)(SPS): 66k; SubFamily: Precision ADC (<=10MSPS); DatasheetVersion: SLAS096C; PackageVersion: 4040065/E, 12/2001; PackageReference: DB20; PackageDescription: 20-Pin Plastic Small Outline, Body 5.3 x 7.2 mm, Pitch 0.65 mm; Supplier 1: Digi-Key; Supplier Part Number 1: ADS8254IBRGCR-ND; Supplier 2: Newark; Supplier Part Number 2: 09R3258; Supplier 3: Mouser; Supplier Part Number 3: 595-ADS8254IBRGCR; Digital Supply(Max)(V): 3.6; Digital Supply(Min)(V): 3; Eco-Plan: Green (RoHS & no Sb/Br); Mounting Technology: Surface Mount; Code_JEDEC: MO-150; ComponentLink1Description: Manufacturer URL; ComponentLink1URL: http://www.ti.com/; ComponentLink2Description: Datasheet; ComponentLink2URL: http://www.ti.com/general/docs/lit/getliterature.tsp?genericPartNumber=TLV2543&fileType=pdf; ComponentLink3Description: Package Specification; ComponentLink3URL: http://www.ti.com/lit/ml/msso002e/msso002e.pdf
footprint TI-DB20_N (SOP, 20-Leads, Body 7.2x5.3mm, Pitch 0.65mm, IPC Medium Density)
footprint TI-DB20_L (SOP, 20-Leads, Body 7.2x5.3mm, Pitch 0.65mm, IPC High Density)
footprint TI-DB20_M (SOP, 20-Leads, Body 7.2x5.3mm, Pitch 0.65mm, IPC Low Density)
pins: 1 AIN0 (in) "Analog input. These 11 analog-signal inputs are internally multiplexed.", 2 AIN1 (in) "Analog input. These 11 analog-signal inputs are internally multiplexed.", 3 AIN2 (in) "Analog input. These 11 analog-signal inputs are internally multiplexed.", 4 AIN3 (in) "Analog input. These 11 analog-signal inputs are internally multiplexed.", 5 AIN4 (in) "Analog input. These 11 analog-signal inputs are internally multiplexed.", 6 AIN5 (in) "Analog input. These 11 analog-signal inputs are internally multiplexed.", 7 AIN6 (in) "Analog input. These 11 analog-signal inputs are internally multiplexed.", 8 AIN7 (in) "Analog input. These 11 analog-signal inputs are internally multiplexed.", 9 AIN8 (in) "Analog input. These 11 analog-signal inputs are internally multiplexed.", 10 GND (power) "Ground. GND is the ground return terminal for the internal circuitry. Unless otherwise noted, all voltage measurements are with respect to GND.", 11 AIN9 (in) "Analog input. These 11 analog-signal inputs are internally multiplexed.", 12 AIN10 (in) "Analog input. These 11 analog-signal inputs are internally multiplexed.", 13 REF- (in) "Negative reference voltage. The lower reference voltage value (nominally ground) is applied to REF-. This pin is connected to analog ground (GND of the ADC) when internal reference is used.", 14 REF+ (in) "Positive reference voltage The upper reference voltage value (nominally VCC) is applied to REF+. The maximum analog input voltage range is determined by the difference between the voltage applied to terminals REF+ and REF-.", 15 ~{CS} (in) "Chip select. A high-to-low transition on C\S\ resets the internal counters and controls and enables DATA OUT, DATA IN, and I/O CLOCK. A low-to-high transition disables DATA IN and I/O CLOCK within a setup time.", 16 DATA OUT (hiz) "The 3-state serial output for the A/D conversion result. DATA OUT is in the high-impedance state when C\S\ is high and active when C\S\ is low. With a valid C\S\, DATA OUT is removed from the high-impedance state and is (See Datasheet)", 17 DATA IN (in) "Serial data input. The 4-bit serial data can be used as address selects the desired analog input channel or test voltage to be converted next, or a command to activate other other features. The input data is presented with (See Datasheet)", 18 I/O CLOCK (in) "Input /output clock. I/O CLOCK receives the serial input and performs the following four functions:", 19 EOC (out) "Status output, used to indicate the end of conversion (EOC) to the host processor. EOC goes from a high to a low logic level after the falling edge of the last I/O CLOCK and remains low until the conversion is complete and (See Datasheet)", 20 VCC (power) "Positive supply voltage"